# Altium integrated library ECHU1H101JX5.IntLib: 1 symbol
Pins are listed as number, name and electrical type; pins without a type are passive.

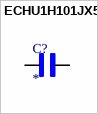
[diagram p0: symbol ECHU1H101JX5]

## ECHU1H101JX5
designator C?
Capacitor; ECHU, SMD, Stack Met PPS Film Cap, 50VDC, 0.00010uF, 5%, 0805, Cut Tape; MP: ECHU1H101JX5; MF: Panasonic; SnapEDA_Link: https://www.snapeda.com/parts/ECHU1H101JX5/Panasonic/view-part/?ref=snap; Package: 0805-2 Panasonic; Digi-Key_Part_Number: PCF1316TR-ND; Check_prices: https://www.snapeda.com/parts/ECHU1H101JX5/Panasonic/view-part/?ref=eda; Value: *
footprint CAP_ECHU1H101JX5
pins: 1, 2